# Altium schematic symbol library Switches.SchLib: 10 symbols
Pins are listed as number, name and electrical type; pins without a type are passive.

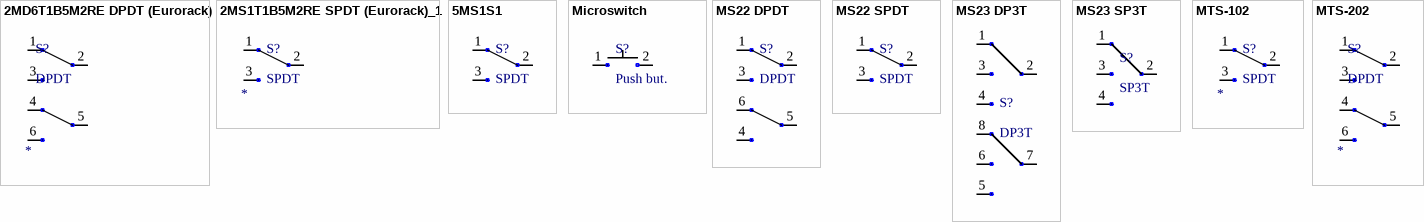
[diagram p0: symbols 2MD6T1B5M2RE DPDT (Eurorack) to MTS-202]

## 2MD6T1B5M2RE DPDT (Eurorack)
designator S?, comment DPDT
Dual Pole Dual Throw on-on-on Switch; Package Type: THT; Type: Switch; Signals: *
footprint 2MD6T1B5M2RE (Dual Pole Dual Throw on-on-on Switch)
pins: 1, 2, 3, 4, 5, 6

## 2MS1T1B5M2RE SPDT (Eurorack)_1
designator S?, comment SPDT
Single Pole Double Throw on-on Switch; Package Type: THT; Type: Switch; Signals: *
footprint 2MS1T1B5M2RE (Single Pole Dual Throw on-on Switch)
pins: 1, 2, 3

## 5MS1S1
designator S?, comment SPDT
Single Pole Double Throw on/on Slider Switch THT 2A/250VAC; Package Type: THT; Type: Switch
pins: 1, 2, 3

## Microswitch
designator S?, comment Push but.
Tactile Microswitch Push Button THT; Package Type: THT; Type: Switch
footprint Tact. microswitch (6 x 6 mm tactile microswitch THT)
pins: 1, 2

## MS22 DPDT
designator S?, comment DPDT
Dual Pole Double Throw on/on Slider Switch THT; Package Type: THT; Type: Switch
footprint MS22 (MS22 DPDT slider switch)
pins: 1, 2, 3, 4, 5, 6

## MS22 SPDT
designator S?, comment SPDT
Single Pole Double Throw on/on Slider Switch THT; Package Type: THT; Type: Switch
footprint MS22 (MS22 DPDT slider switch)
pins: 1, 2, 3

## MS23 DP3T
designator S?, comment DP3T
Dual Pole Triple Throw on/on/on Slider Switch THT; Package Type: THT; Type: Switch
footprint MS23
pins: 1, 2, 3, 4, 5, 6, 7, 8

## MS23 SP3T
designator S?, comment SP3T
Single Pole Triple Throw on/on/on Slider Switch THT; Package Type: THT; Type: Switch
footprint MS23
pins: 1, 2, 3, 4

## MTS-102
designator S?, comment SPDT
Single Pole Double Throw on-on Switch; Package Type: THT; Type: Switch; Signals: *
footprint MTS-102 (SPDT on-on toggle switch)
pins: 1, 2, 3

## MTS-202
designator S?, comment DPDT
Dual Pole Dual Throw on-on Switch; Package Type: THT; Type: Switch; Signals: *
footprint MTS-202 (DPDT on-on toggle switch)
pins: 1, 2, 3, 4, 5, 6